# EAGLE library part FT600Q-T (library FT600Q-T)
USB 3.0 to FIFO bridge 16-bit QFN56
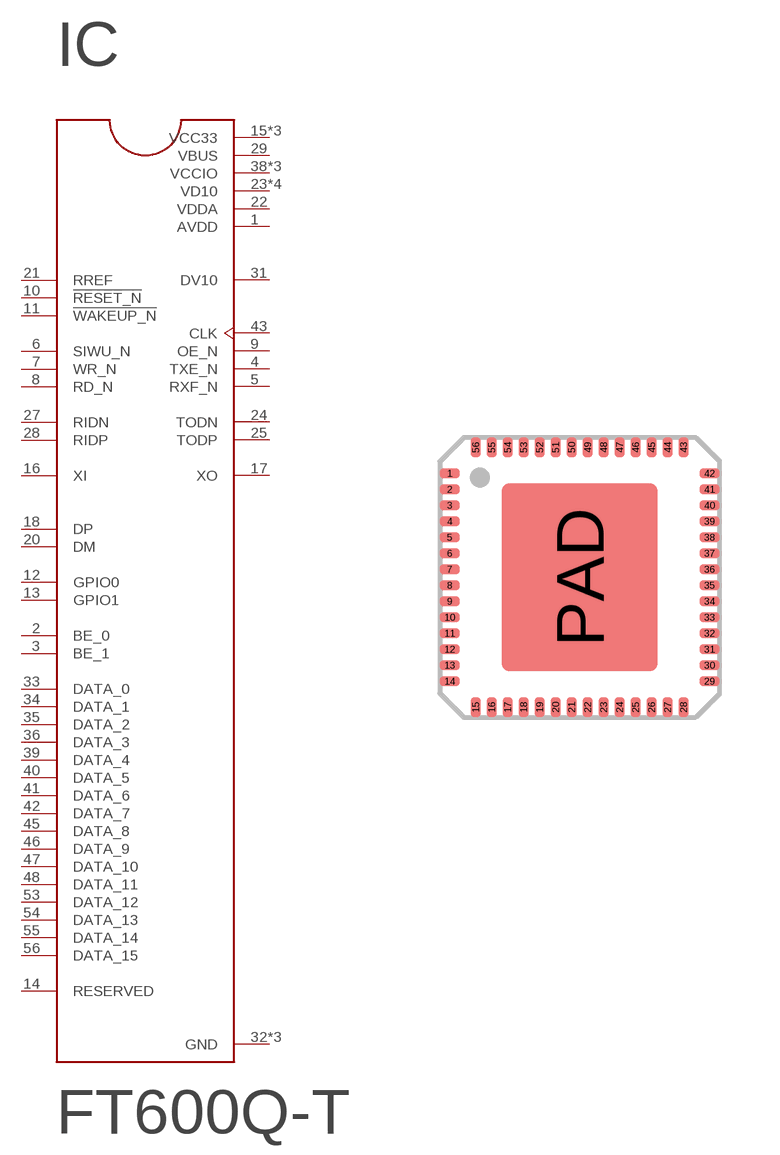
[diagram p0: symbol with the pads of QFN40P700X700X85-57N; footprint QFN40P700X700X85-57N]

Designator prefix IC

## FT600Q-T (DESCRIPTION: USB Bridge, USB to FIFO USB 3.0 FIFO Interface 56-QFN (7x7); DIGI-KEY_PART_NUMBER: 768-1251-ND; MF: FTDI,; MP: FT600Q-T; PACKAGE: QFN-56 FTDI)  [QFN40P700X700X85-57N]
1  AVDD  pwr
2  BE_0
3  BE_1
4  TXE_N  out
5  RXF_N  out
6  SIWU_N  in
7  WR_N  in
8  RD_N  in
9  OE_N  out
10  !RESET_N  in
11  !WAKEUP_N  in
12  GPIO0
13  GPIO1
14  RESERVED
15  VCC33  pwr
16  XI  in
17  XO  out
18  DP
19  VCC33  pwr
20  DM
21  RREF  in
22  VDDA  pwr
23  VD10  pwr
24  TODN  out
25  TODP  out
26  VD10  pwr
27  RIDN  in
28  RIDP  in
29  VBUS  pwr
30  VCC33  pwr
31  DV10  out
32  GND  pas
33  DATA_0
34  DATA_1
35  DATA_2
36  DATA_3
37  VD10  pwr
38  VCCIO  pwr
39  DATA_4
40  DATA_5
41  DATA_6
42  DATA_7
43  CLK  out
44  VCCIO  pwr
45  DATA_8
46  DATA_9
47  DATA_10
48  DATA_11
49  GND  pas
50  VD10  pwr
51  GND  pas
52  VCCIO  pwr
53  DATA_12
54  DATA_13
55  DATA_14
56  DATA_15

## Footprint QFN40P700X700X85-57N (pad centres in mm)
smd 0.5 x 0.25: 1 -3.25,2.6; 2 -3.25,2.2; 3 -3.25,1.8; 4 -3.25,1.4; 5 -3.25,1; 6 -3.25,0.6; 7 -3.25,0.2; 8 -3.25,-0.2; 9 -3.25,-0.6; 10 -3.25,-1; 11 -3.25,-1.4; 12 -3.25,-1.8; 13 -3.25,-2.2; 14 -3.25,-2.6; 29 3.25,-2.6; 30 3.25,-2.2; 31 3.25,-1.8; 32 3.25,-1.4; 33 3.25,-1; 34 3.25,-0.6; 35 3.25,-0.2; 36 3.25,0.2; 37 3.25,0.6; 38 3.25,1; 39 3.25,1.4; 40 3.25,1.8; 41 3.25,2.2; 42 3.25,2.6
smd 0.25 x 0.5: 15 -2.6,-3.25; 16 -2.2,-3.25; 17 -1.8,-3.25; 18 -1.4,-3.25; 19 -1,-3.25; 20 -0.6,-3.25; 21 -0.2,-3.25; 22 0.2,-3.25; 23 0.6,-3.25; 24 1,-3.25; 25 1.4,-3.25; 26 1.8,-3.25; 27 2.2,-3.25; 28 2.6,-3.25; 43 2.6,3.25; 44 2.2,3.25; 45 1.8,3.25; 46 1.4,3.25; 47 1,3.25; 48 0.6,3.25; 49 0.2,3.25; 50 -0.2,3.25; 51 -0.6,3.25; 52 -1,3.25; 53 -1.4,3.25; 54 -1.8,3.25; 55 -2.2,3.25; 56 -2.6,3.25
smd 3.9 x 4.7: PAD 0,0